# Altium integrated library 2.21K_Res_RT0603DRE072K21L.IntLib: 1 symbol
Pins are listed as number, name and electrical type; pins without a type are passive.

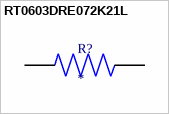
[diagram p0: symbol RT0603DRE072K21L]

## RT0603DRE072K21L
designator R?
RES SMD 2.21KOHM 0.5% 1/10W 0603; MP: RT0603DRE072K21L; Package: None; Price: None; Value: *; Availability: Unavailable
footprint RESC1608X55N
pins: 1, 2